# Altium footprint library Standard Control Panel.PcbLib: 6 footprints
Each footprint in its own frame and in the unit in brackets; x right, y up, seen from the top. Pads: shape width x height; smd on the part's side, far side on the other; paste and mask are expansions set on the pad; w line width, h text height; cw(c..) or ccw(c..) is an arc to the next point about the centre after c.
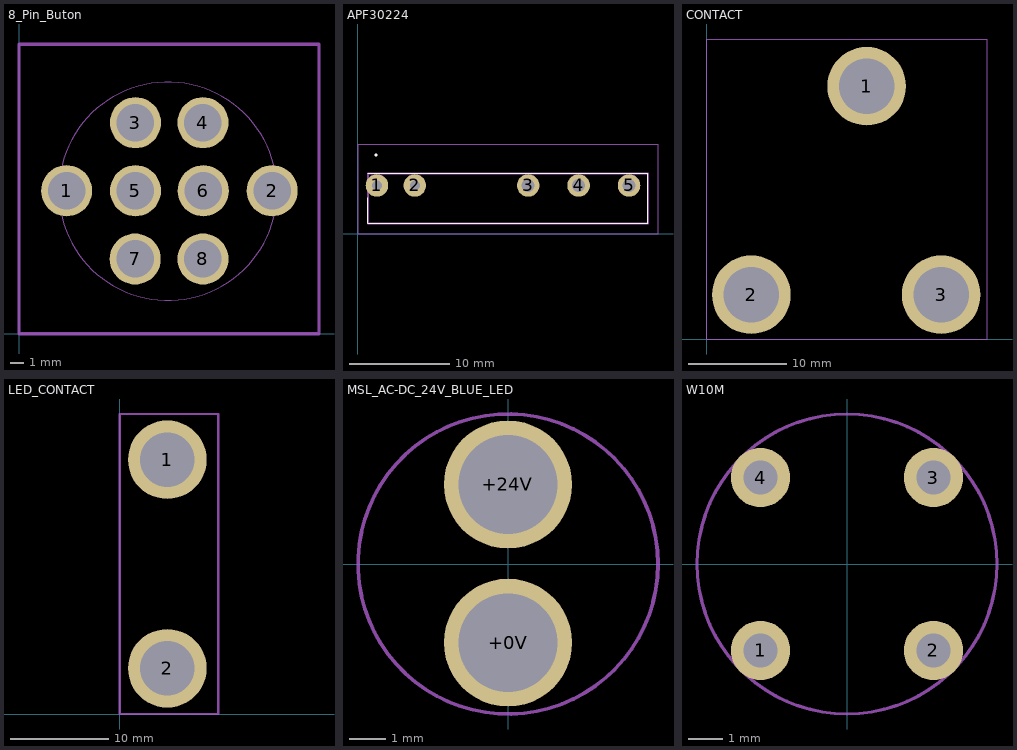
[diagram p0: the footprints below, top view; thin cyan lines are the x and y axes]

## 8_Pin_Buton [mm]
pads (8):
  round 3.75 hole 2.75: 1(3.491,10.492) 2(18.566,10.492) 3(8.541,15.492) 4(13.491,15.492) 5(8.541,10.492) 6(13.516,10.492) 7(8.516,5.492) 8(13.491,5.492)
Mechanical 1:
  circle w0.013: c10.922,10.458 r8
Mechanical 15:
  lines w0.254: 0,0 22,0 22,21.25 0,21.25 0,0

## APF30224 [mm]
pads (5):
  round 2.25 hole 1: 1(1.905,4.826) 2(5.685,4.826)
  round 2.25 hole 1.3: 3(17.025,4.826) 4(22.065,4.826) 5(27.105,4.826)
Top Overlay:
  lines w0.1: 1.005,1.026 29.005,1.026 ; 1.005,1.026 29.005,1.026 ; 1.005,1.026 1.005,3.576 1.005,1.026 ; 29.005,1.026 29.005,6.026 ; 29.005,1.026 29.005,6.026 ; 29.005,6.026 1.005,6.026 29.005,6.026
  lines w0.2: 1.805,7.826 ccw(c1.805,7.876) 1.805,7.926 ; 1.805,7.826 cw(c1.805,7.876) 1.805,7.926 ; 1.805,7.826 ccw(c1.805,7.876) 1.805,7.926
Mechanical 13:
  lines w0.2: 1.005,1.026 1.005,6.026 29.005,6.026 29.005,1.026 1.005,1.026
Mechanical 15:
  lines w0.1: 0.005,0.026 0.005,8.926 30.005,8.926 30.005,0.026 0.005,0.026
3D body "APF30224.stp": height 15.1, standoff -5, extent 1.005,1.026 29.005,6.026

## CONTACT [mm]
pads (3):
  round 8 hole 5.63: 1(16.25,25.7) 2(4.525,4.5) 3(23.825,4.5)
Mechanical 15:
  lines w0.1: 0,0 0,30.5 28.5,30.5 28.5,0 0,0

## LED_CONTACT [mm]
pads (2):
  round 8 hole 5.5: 1(4.825,25.85) 2(4.825,4.65)
Mechanical 15:
  lines w0.254: 0,0 0,30.5 10,30.5 10,0 0,0

## MSL_AC-DC_24V_BLUE_LED [mm]
pads (2):
  round 3.5 hole 2.7: +0V(0,-2.15) +24V(0,2.175)
Mechanical 15:
  circle w0.1: c0,0 r4.1

## W10M [mm]
pads (4):
  round 1.75 hole 1: 1(-2.55,-2.55) 2(2.55,-2.55) 3(2.55,2.55) 4(-2.55,2.55)
Mechanical 15:
  circle w0.1: c0,0 r4.425